# EAGLE library part LTV-247 (library omcOpto)
LTV-247 - Photocoupler current transfer ratio (CTR: min 50% @IF=5mA, VCE=5V) High input-output isolation voltage (3750Vrms) High collector-emitter voltage
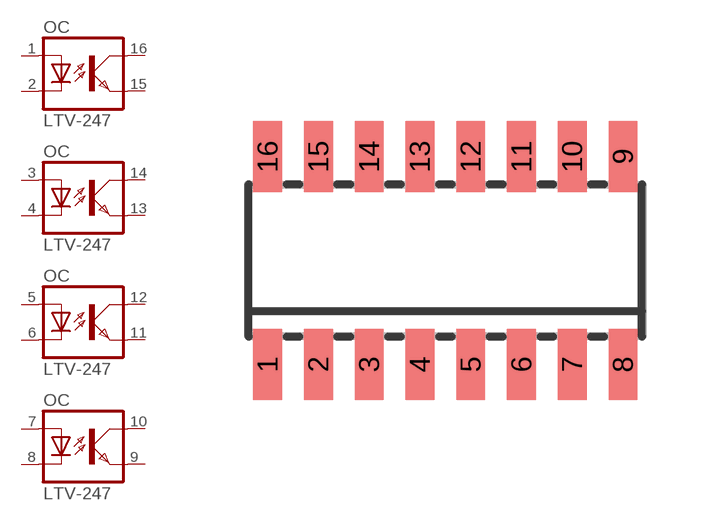
[diagram p3: symbol with the pads of SOIC16; footprint SOIC16]

Designator prefix OC; gates G$1=OC G$2=OC G$3=OC G$4=OC

## LTV-247 (VALUE: LTV247)  [SOIC16]
1  G$1:A  pas
2  G$1:C  pas
3  G$2:A  pas
4  G$2:C  pas
5  G$3:A  pas
6  G$3:C  pas
7  G$4:A  pas
8  G$4:C  pas
9  G$4:TE  pas
10  G$4:TC  pas
11  G$3:TE  pas
12  G$3:TC  pas
13  G$2:TE  pas
14  G$2:TC  pas
15  G$1:TE  pas
16  G$1:TC  pas

## Footprint SOIC16 (pad centres in mm)
SOIC16 SMD 9.8mm×6.2mm Mechanical <https://www.centralsemi.com/PDFs/case/SOIC-16PD.PDF> Wikipedia <https://en.wikipedia.org/wiki/Small_Outline_Integrated_Circuit>
smd 0.72 x 1.78: 1 -4.445,-2.6; 2 -3.175,-2.6; 3 -1.905,-2.6; 4 -0.635,-2.6; 5 0.635,-2.6; 6 1.905,-2.6; 7 3.175,-2.6; 8 4.445,-2.6; 9 4.445,2.6; 10 3.175,2.6; 11 1.905,2.6; 12 0.635,2.6; 13 -0.635,2.6; 14 -1.905,2.6; 15 -3.175,2.6; 16 -4.445,2.6